# Altium footprint library B3U-1000P-B.PcbLib: 1 footprints
Each footprint in its own frame and in the unit in brackets; x right, y up, seen from the top. Pads: shape width x height; smd on the part's side, far side on the other; paste and mask are expansions set on the pad; w line width, h text height; cw(c..) or ccw(c..) is an arc to the next point about the centre after c.
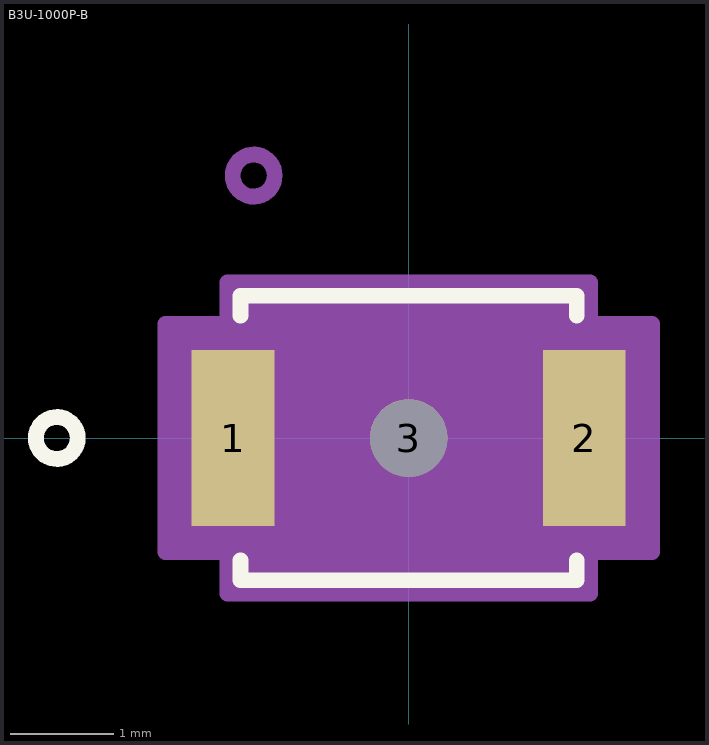
[diagram p0: the footprint, top view; thin cyan lines are the x and y axes]

## B3U-1000P-B [mm]
pads (3):
  rect 0.8x1.7 smd paste+0 mask+0: 1(-1.7,0) 2(1.7,0)
  round 0.75 / inner round 1.524 / far side round 0.75 hole 0.75 unplated paste-0.375 mask-0.381: 3(0,0)
Top Overlay:
  circle w0.152: c-3.405,0 r0.203
  lines w0.152: -1.627,-1.183 -1.627,-1.377 1.627,-1.377 1.627,-1.183 ; -1.627,1.183 -1.627,1.377 1.627,1.377 1.627,1.183
Mechanical 13:
  circle w0: c0,0 r0.75
  circle w0.152: c-1.5,2.54 r0.203
  lines w0.025: -1.7,0 -1.5,0 -1.7,0 ; -1.5,-1.25 -1.5,1.25 1.5,1.25 1.5,-1.25 -1.5,-1.25 ; 1.5,0 1.7,0 1.5,0
Mechanical 15:
  region: -1.754,-1.104 -2.354,-1.104 -2.354,1.104 -1.754,1.104 -1.754,1.504 1.754,1.504 1.754,1.104 2.354,1.104 2.354,-1.104 1.754,-1.104 1.754,-1.504 -1.754,-1.504
  lines w0.152: -2.354,-1.104 -1.754,-1.104 -1.754,-1.504 1.754,-1.504 1.754,-1.104 2.354,-1.104 2.354,1.104 1.754,1.104 1.754,1.504 -1.754,1.504 -1.754,1.104 -2.354,1.104 -2.354,-1.104